# EAGLE library part XF2M-3315-1A (library OMRON_ELECTRONIC_COMPONENTS_By_element14_Batch_1)
FFC/FPC CONNECTOR, RECEPTACLE 33POS 1ROW
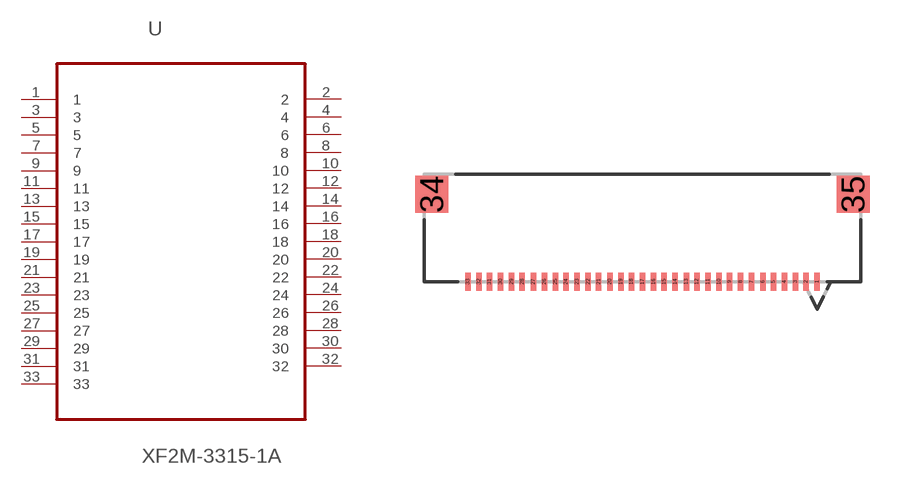
[diagram p6: symbol with the pads of OMRON_XF2M-3315-1A; footprint OMRON_XF2M-3315-1A]

Designator prefix U

## XF2M-3315-1A (MPN: XF2M-3315-1A; OC_FARNELL: -; OC_NEWARK: 05M2023; PACKAGE: FFC/FPC CONNECTOR, RECEPTACLE 33POS 1ROW; SUPPLIER: OMRON ELECTRONIC COMPONENTS)  [OMRON_XF2M-3315-1A]
1  1  pas
2  2  pas
3  3  pas
4  4  pas
5  5  pas
6  6  pas
7  7  pas
8  8  pas
9  9  pas
10  10  pas
11  11  pas
12  12  pas
13  13  pas
14  14  pas
15  15  pas
16  16  pas
17  17  pas
18  18  pas
19  19  pas
20  20  pas
21  21  pas
22  22  pas
23  23  pas
24  24  pas
25  25  pas
26  26  pas
27  27  pas
28  28  pas
29  29  pas
30  30  pas
31  31  pas
32  32  pas
33  33  pas

## Footprint OMRON_XF2M-3315-1A (pad centres in mm)
smd 0.254 x 0.813: 1 8.001,2.438; 2 7.493,2.438; 3 7.01,2.438; 4 6.502,2.438; 5 5.994,2.438; 6 5.512,2.438; 7 5.004,2.438; 8 4.496,2.438; 9 3.988,2.438; 10 3.505,2.438; 11 2.997,2.438; 12 2.489,2.438; 13 2.007,2.438; 14 1.499,2.438; 15 0.991,2.438; 16 0.508,2.438; 17 0,2.438; 18 -0.508,2.438; 19 -0.991,2.438; 20 -1.499,2.438; 21 -2.007,2.438; 22 -2.489,2.438; 23 -2.997,2.438; 24 -3.505,2.438; 25 -3.988,2.438; 26 -4.496,2.438; 27 -5.004,2.438; 28 -5.512,2.438; 29 -5.994,2.438; 30 -6.502,2.438; 31 -7.01,2.438; 32 -7.493,2.438; 33 -8.001,2.438
smd 1.524 x 1.702: 34 -9.652,6.452; 35 9.652,6.452